# Altium schematic symbol library SCH - MCU - STM32 - ST MICROELECTRONICS STM32G471Q(C-E)TX LQFP128.SchLib: 1 symbol
Pins are listed as number, name and electrical type; pins without a type are passive.

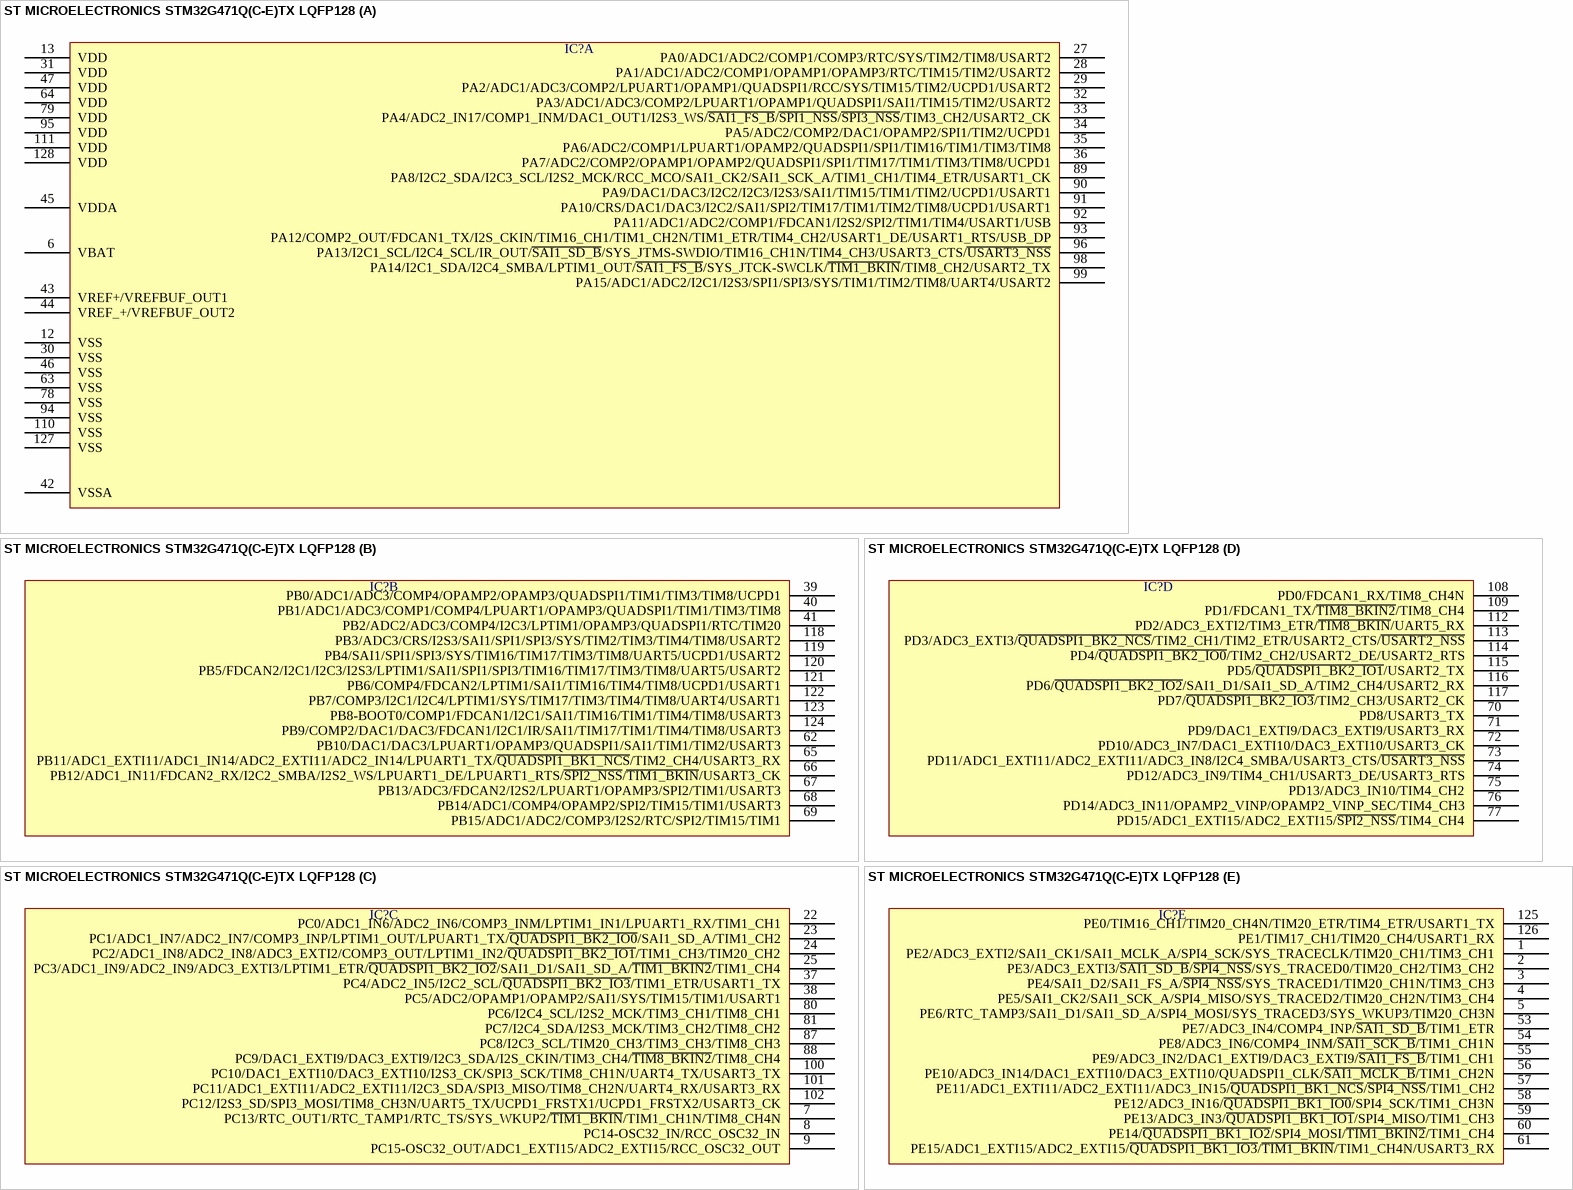
[diagram p0: symbol ST MICROELECTRONICS STM32G471Q(C-E)TX LQFP128]

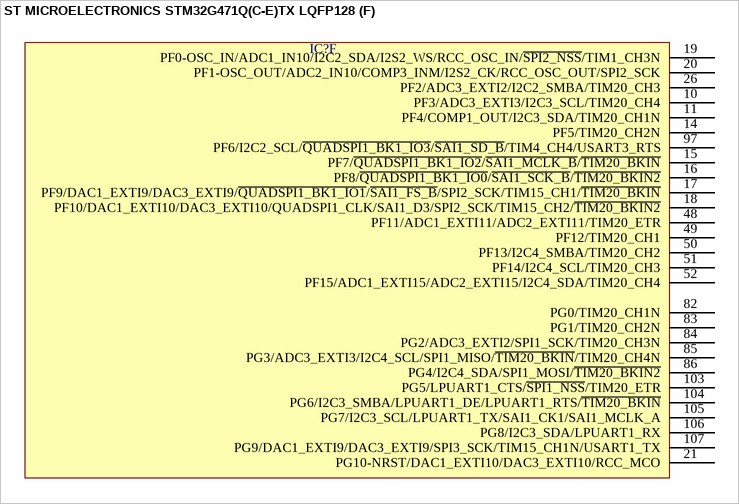
[diagram p1: symbol ST MICROELECTRONICS STM32G471Q(C-E)TX LQFP128]

## ST MICROELECTRONICS STM32G471Q(C-E)TX LQFP128
designator IC?  (value not drawn)
part A pins: 6 VBAT, 12 VSS, 13 VDD, 27 PA0/ADC1/ADC2/COMP1/COMP3/RTC/SYS/TIM2/TIM8/USART2, 28 PA1/ADC1/ADC2/COMP1/OPAMP1/OPAMP3/RTC/TIM15/TIM2/USART2, 29 PA2/ADC1/ADC3/COMP2/LPUART1/OPAMP1/QUADSPI1/RCC/SYS/TIM15/TIM2/UCPD1/USART2, 30 VSS, 31 VDD, 32 PA3/ADC1/ADC3/COMP2/LPUART1/OPAMP1/QUADSPI1/SAI1/TIM15/TIM2/USART2, 33 PA4/ADC2_IN17/COMP1_INM/DAC1_OUT1/I2S3_WS/~{SAI1_FS_B}/~{SPI1_NSS}/~{SPI3_NSS}/TIM3_CH2/USART2_CK, 34 PA5/ADC2/COMP2/DAC1/OPAMP2/SPI1/TIM2/UCPD1, 35 PA6/ADC2/COMP1/LPUART1/OPAMP2/QUADSPI1/SPI1/TIM16/TIM1/TIM3/TIM8, 36 PA7/ADC2/COMP2/OPAMP1/OPAMP2/QUADSPI1/SPI1/TIM17/TIM1/TIM3/TIM8/UCPD1, 42 VSSA, 43 VREF+/VREFBUF_OUT1, 44 VREF_+/VREFBUF_OUT2, 45 VDDA, 46 VSS, 47 VDD, 63 VSS, 64 VDD, 78 VSS, 79 VDD, 89 PA8/I2C2_SDA/I2C3_SCL/I2S2_MCK/RCC_MCO/SAI1_CK2/SAI1_SCK_A/TIM1_CH1/TIM4_ETR/USART1_CK, 90 PA9/DAC1/DAC3/I2C2/I2C3/I2S3/SAI1/TIM15/TIM1/TIM2/UCPD1/USART1, 91 PA10/CRS/DAC1/DAC3/I2C2/SAI1/SPI2/TIM17/TIM1/TIM2/TIM8/UCPD1/USART1, 92 PA11/ADC1/ADC2/COMP1/FDCAN1/I2S2/SPI2/TIM1/TIM4/USART1/USB, 93 PA12/COMP2_OUT/FDCAN1_TX/I2S_CKIN/TIM16_CH1/TIM1_CH2N/TIM1_ETR/TIM4_CH2/USART1_DE/USART1_RTS/USB_DP, 94 VSS, 95 VDD, 96 PA13/I2C1_SCL/I2C4_SCL/IR_OUT/~{SAI1_SD_B}/SYS_JTMS-SWDIO/TIM16_CH1N/TIM4_CH3/USART3_CTS/~{USART3_NSS}, 98 PA14/I2C1_SDA/I2C4_SMBA/LPTIM1_OUT/~{SAI1_FS_B}/SYS_JTCK-SWCLK/~{TIM1_BKIN}/TIM8_CH2/USART2_TX, 99 PA15/ADC1/ADC2/I2C1/I2S3/SPI1/SPI3/SYS/TIM1/TIM2/TIM8/UART4/USART2, 110 VSS, 111 VDD, 127 VSS, 128 VDD
part B pins: 39 PB0/ADC1/ADC3/COMP4/OPAMP2/OPAMP3/QUADSPI1/TIM1/TIM3/TIM8/UCPD1, 40 PB1/ADC1/ADC3/COMP1/COMP4/LPUART1/OPAMP3/QUADSPI1/TIM1/TIM3/TIM8, 41 PB2/ADC2/ADC3/COMP4/I2C3/LPTIM1/OPAMP3/QUADSPI1/RTC/TIM20, 62 PB10/DAC1/DAC3/LPUART1/OPAMP3/QUADSPI1/SAI1/TIM1/TIM2/USART3, 65 PB11/ADC1_EXTI11/ADC1_IN14/ADC2_EXTI11/ADC2_IN14/LPUART1_TX/~{QUADSPI1_BK1_NCS}/TIM2_CH4/USART3_RX, 66 PB12/ADC1_IN11/FDCAN2_RX/I2C2_SMBA/I2S2_WS/LPUART1_DE/LPUART1_RTS/~{SPI2_NSS}/~{TIM1_BKIN}/USART3_CK, 67 PB13/ADC3/FDCAN2/I2S2/LPUART1/OPAMP3/SPI2/TIM1/USART3, 68 PB14/ADC1/COMP4/OPAMP2/SPI2/TIM15/TIM1/USART3, 69 PB15/ADC1/ADC2/COMP3/I2S2/RTC/SPI2/TIM15/TIM1, 118 PB3/ADC3/CRS/I2S3/SAI1/SPI1/SPI3/SYS/TIM2/TIM3/TIM4/TIM8/USART2, 119 PB4/SAI1/SPI1/SPI3/SYS/TIM16/TIM17/TIM3/TIM8/UART5/UCPD1/USART2, 120 PB5/FDCAN2/I2C1/I2C3/I2S3/LPTIM1/SAI1/SPI1/SPI3/TIM16/TIM17/TIM3/TIM8/UART5/USART2, 121 PB6/COMP4/FDCAN2/LPTIM1/SAI1/TIM16/TIM4/TIM8/UCPD1/USART1, 122 PB7/COMP3/I2C1/I2C4/LPTIM1/SYS/TIM17/TIM3/TIM4/TIM8/UART4/USART1, 123 PB8-BOOT0/COMP1/FDCAN1/I2C1/SAI1/TIM16/TIM1/TIM4/TIM8/USART3, 124 PB9/COMP2/DAC1/DAC3/FDCAN1/I2C1/IR/SAI1/TIM17/TIM1/TIM4/TIM8/USART3
part C pins: 7 PC13/RTC_OUT1/RTC_TAMP1/RTC_TS/SYS_WKUP2/~{TIM1_BKIN}/TIM1_CH1N/TIM8_CH4N, 8 PC14-OSC32_IN/RCC_OSC32_IN, 9 PC15-OSC32_OUT/ADC1_EXTI15/ADC2_EXTI15/RCC_OSC32_OUT, 22 PC0/ADC1_IN6/ADC2_IN6/COMP3_INM/LPTIM1_IN1/LPUART1_RX/TIM1_CH1, 23 PC1/ADC1_IN7/ADC2_IN7/COMP3_INP/LPTIM1_OUT/LPUART1_TX/~{QUADSPI1_BK2_IO0}/SAI1_SD_A/TIM1_CH2, 24 PC2/ADC1_IN8/ADC2_IN8/ADC3_EXTI2/COMP3_OUT/LPTIM1_IN2/~{QUADSPI1_BK2_IO1}/TIM1_CH3/TIM20_CH2, 25 PC3/ADC1_IN9/ADC2_IN9/ADC3_EXTI3/LPTIM1_ETR/~{QUADSPI1_BK2_IO2}/SAI1_D1/SAI1_SD_A/~{TIM1_BKIN2}/TIM1_CH4, 37 PC4/ADC2_IN5/I2C2_SCL/~{QUADSPI1_BK2_IO3}/TIM1_ETR/USART1_TX, 38 PC5/ADC2/OPAMP1/OPAMP2/SAI1/SYS/TIM15/TIM1/USART1, 80 PC6/I2C4_SCL/I2S2_MCK/TIM3_CH1/TIM8_CH1, 81 PC7/I2C4_SDA/I2S3_MCK/TIM3_CH2/TIM8_CH2, 87 PC8/I2C3_SCL/TIM20_CH3/TIM3_CH3/TIM8_CH3, 88 PC9/DAC1_EXTI9/DAC3_EXTI9/I2C3_SDA/I2S_CKIN/TIM3_CH4/~{TIM8_BKIN2}/TIM8_CH4, 100 PC10/DAC1_EXTI10/DAC3_EXTI10/I2S3_CK/SPI3_SCK/TIM8_CH1N/UART4_TX/USART3_TX, 101 PC11/ADC1_EXTI11/ADC2_EXTI11/I2C3_SDA/SPI3_MISO/TIM8_CH2N/UART4_RX/USART3_RX, 102 PC12/I2S3_SD/SPI3_MOSI/TIM8_CH3N/UART5_TX/UCPD1_FRSTX1/UCPD1_FRSTX2/USART3_CK
part D pins: 70 PD8/USART3_TX, 71 PD9/DAC1_EXTI9/DAC3_EXTI9/USART3_RX, 72 PD10/ADC3_IN7/DAC1_EXTI10/DAC3_EXTI10/USART3_CK, 73 PD11/ADC1_EXTI11/ADC2_EXTI11/ADC3_IN8/I2C4_SMBA/USART3_CTS/~{USART3_NSS}, 74 PD12/ADC3_IN9/TIM4_CH1/USART3_DE/USART3_RTS, 75 PD13/ADC3_IN10/TIM4_CH2, 76 PD14/ADC3_IN11/OPAMP2_VINP/OPAMP2_VINP_SEC/TIM4_CH3, 77 PD15/ADC1_EXTI15/ADC2_EXTI15/~{SPI2_NSS}/TIM4_CH4, 108 PD0/FDCAN1_RX/TIM8_CH4N, 109 PD1/FDCAN1_TX/~{TIM8_BKIN2}/TIM8_CH4, 112 PD2/ADC3_EXTI2/TIM3_ETR/~{TIM8_BKIN}/UART5_RX, 113 PD3/ADC3_EXTI3/~{QUADSPI1_BK2_NCS}/TIM2_CH1/TIM2_ETR/USART2_CTS/~{USART2_NSS}, 114 PD4/~{QUADSPI1_BK2_IO0}/TIM2_CH2/USART2_DE/USART2_RTS, 115 PD5/~{QUADSPI1_BK2_IO1}/USART2_TX, 116 PD6/~{QUADSPI1_BK2_IO2}/SAI1_D1/SAI1_SD_A/TIM2_CH4/USART2_RX, 117 PD7/~{QUADSPI1_BK2_IO3}/TIM2_CH3/USART2_CK
part E pins: 1 PE2/ADC3_EXTI2/SAI1_CK1/SAI1_MCLK_A/SPI4_SCK/SYS_TRACECLK/TIM20_CH1/TIM3_CH1, 2 PE3/ADC3_EXTI3/~{SAI1_SD_B}/~{SPI4_NSS}/SYS_TRACED0/TIM20_CH2/TIM3_CH2, 3 PE4/SAI1_D2/SAI1_FS_A/~{SPI4_NSS}/SYS_TRACED1/TIM20_CH1N/TIM3_CH3, 4 PE5/SAI1_CK2/SAI1_SCK_A/SPI4_MISO/SYS_TRACED2/TIM20_CH2N/TIM3_CH4, 5 PE6/RTC_TAMP3/SAI1_D1/SAI1_SD_A/SPI4_MOSI/SYS_TRACED3/SYS_WKUP3/TIM20_CH3N, 53 PE7/ADC3_IN4/COMP4_INP/~{SAI1_SD_B}/TIM1_ETR, 54 PE8/ADC3_IN6/COMP4_INM/~{SAI1_SCK_B}/TIM1_CH1N, 55 PE9/ADC3_IN2/DAC1_EXTI9/DAC3_EXTI9/~{SAI1_FS_B}/TIM1_CH1, 56 PE10/ADC3_IN14/DAC1_EXTI10/DAC3_EXTI10/QUADSPI1_CLK/~{SAI1_MCLK_B}/TIM1_CH2N, 57 PE11/ADC1_EXTI11/ADC2_EXTI11/ADC3_IN15/~{QUADSPI1_BK1_NCS}/~{SPI4_NSS}/TIM1_CH2, 58 PE12/ADC3_IN16/~{QUADSPI1_BK1_IO0}/SPI4_SCK/TIM1_CH3N, 59 PE13/ADC3_IN3/~{QUADSPI1_BK1_IO1}/SPI4_MISO/TIM1_CH3, 60 PE14/~{QUADSPI1_BK1_IO2}/SPI4_MOSI/~{TIM1_BKIN2}/TIM1_CH4, 61 PE15/ADC1_EXTI15/ADC2_EXTI15/~{QUADSPI1_BK1_IO3}/~{TIM1_BKIN}/TIM1_CH4N/USART3_RX, 125 PE0/TIM16_CH1/TIM20_CH4N/TIM20_ETR/TIM4_ETR/USART1_TX, 126 PE1/TIM17_CH1/TIM20_CH4/USART1_RX
part F pins: 10 PF3/ADC3_EXTI3/I2C3_SCL/TIM20_CH4, 11 PF4/COMP1_OUT/I2C3_SDA/TIM20_CH1N, 14 PF5/TIM20_CH2N, 15 PF7/~{QUADSPI1_BK1_IO2}/~{SAI1_MCLK_B}/~{TIM20_BKIN}, 16 PF8/~{QUADSPI1_BK1_IO0}/~{SAI1_SCK_B}/~{TIM20_BKIN2}, 17 PF9/DAC1_EXTI9/DAC3_EXTI9/~{QUADSPI1_BK1_IO1}/~{SAI1_FS_B}/SPI2_SCK/TIM15_CH1/~{TIM20_BKIN}, 18 PF10/DAC1_EXTI10/DAC3_EXTI10/QUADSPI1_CLK/SAI1_D3/SPI2_SCK/TIM15_CH2/~{TIM20_BKIN2}, 19 PF0-OSC_IN/ADC1_IN10/I2C2_SDA/I2S2_WS/RCC_OSC_IN/~{SPI2_NSS}/TIM1_CH3N, 20 PF1-OSC_OUT/ADC2_IN10/COMP3_INM/I2S2_CK/RCC_OSC_OUT/SPI2_SCK, 21 PG10-NRST/DAC1_EXTI10/DAC3_EXTI10/RCC_MCO, 26 PF2/ADC3_EXTI2/I2C2_SMBA/TIM20_CH3, 48 PF11/ADC1_EXTI11/ADC2_EXTI11/TIM20_ETR, 49 PF12/TIM20_CH1, 50 PF13/I2C4_SMBA/TIM20_CH2, 51 PF14/I2C4_SCL/TIM20_CH3, 52 PF15/ADC1_EXTI15/ADC2_EXTI15/I2C4_SDA/TIM20_CH4, 82 PG0/TIM20_CH1N, 83 PG1/TIM20_CH2N, 84 PG2/ADC3_EXTI2/SPI1_SCK/TIM20_CH3N, 85 PG3/ADC3_EXTI3/I2C4_SCL/SPI1_MISO/~{TIM20_BKIN}/TIM20_CH4N, 86 PG4/I2C4_SDA/SPI1_MOSI/~{TIM20_BKIN2}, 97 PF6/I2C2_SCL/~{QUADSPI1_BK1_IO3}/~{SAI1_SD_B}/TIM4_CH4/USART3_RTS, 103 PG5/LPUART1_CTS/~{SPI1_NSS}/TIM20_ETR, 104 PG6/I2C3_SMBA/LPUART1_DE/LPUART1_RTS/~{TIM20_BKIN}, 105 PG7/I2C3_SCL/LPUART1_TX/SAI1_CK1/SAI1_MCLK_A, 106 PG8/I2C3_SDA/LPUART1_RX, 107 PG9/DAC1_EXTI9/DAC3_EXTI9/SPI3_SCK/TIM15_CH1N/USART1_TX